# Altium schematic symbol library SCH - INTERFACE - ST STUSB4500 CSP.SchLib: 1 symbol
Pins are listed as number, name and electrical type; pins without a type are passive.

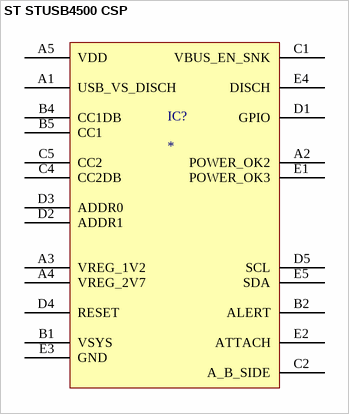
[diagram p0: symbol ST STUSB4500 CSP]

## ST STUSB4500 CSP
designator IC?
pins: A1 USB_VS_DISCH, A2 POWER_OK2, A3 VREG_1V2, A4 VREG_2V7, A5 VDD, B1 VSYS, B2 ALERT, B4 CC1DB, B5 CC1, C1 VBUS_EN_SNK, C2 A_B_SIDE, C4 CC2DB, C5 CC2, D1 GPIO, D2 ADDR1, D3 ADDR0, D4 RESET, D5 SCL, E1 POWER_OK3, E2 ATTACH, E3 GND, E4 DISCH, E5 SDA